# EAGLE library part GP-735T (library SparkFun-RF)
GP-735 - Easy-to-use, Ultra-high performance, GPS Smart Antenna Module ADH-tech GP-735 is a slim, ultra-high performance, easy to use GPS smart antenna module designed with u-blox’s latest 7th generation single chip. This feature rich GPS module not only shortens the design efforts but also provides powerful functions. The compact design allows fast adoption and high yield production. The power control feature is very convenient to turn on/off power just via GPIO control pin. It’s especially useful to turn off power as the GPS function is not needed in the host applications. Features Easy adoption with best performance Built-in narrow patch antenna for dimension demanding application Models of I-PEX RF connector option available for using external antenna Built-in backup power pin for faster position fix UART-TTL interface support Minimum RF and EMI efforts Fully implementation of ultra-high performance u-blox 7 single chip architecture High tracking sensitivity of -162dBm! Low power consumption of 37mA for average tracking Hardware power saving control pin allowing power on/off GPS via GPIO Windows location sensor support A-GPS support Datasheet <https://cdn.sparkfun.com/datasheets/GPS/GP-735T-150203.pdf>
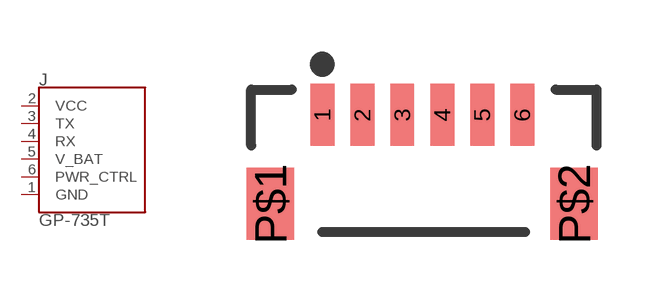
[diagram p68: symbol with the pads of EM406; footprint EM406]

Designator prefix J

## GP-735T-VERTICAL (PROD_ID: CONN-08249)  [EM406]
1  GND
2  VCC
3  TX
4  RX
5  V_BAT
6  PWR_CTRL

## Footprint EM406 (pad centres in mm)
6-Pin Vertical JST Connector 1.0mm pitch JST-SH type Common interface for SparkFun GPS modules. Datasheet <http://www.sparkfun.com/datasheets/GPS/EM406-SMDConnector-eSH.pdf>
smd 0.6 x 1.55: 1 0,0; 2 1,0; 3 2,0; 4 3,0; 5 4,0; 6 5,0
smd 1.2 x 1.8: P$1 -1.3,-2.225; P$2 6.3,-2.225